# EAGLE library part TC4428A (library SPCoast)
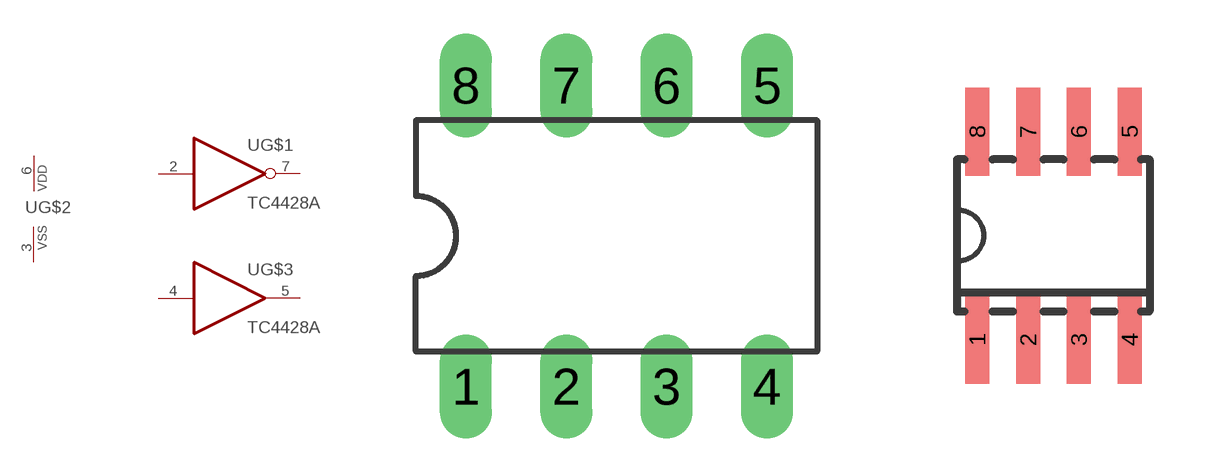
[diagram p80: symbol with the pads of DIL08; footprints DIL08, SO-08]

Designator prefix -; gates G$1=INVERT G$2=PWRN-1 G$3=BUFFER

## TC4428ADIP, TC4428ACPADIP, TC4428AEPADIP, TC4428AMJADIP  [DIL08]
2  G$1:I  in
3  G$2:VSS  pwr
4  G$3:I  in
5  G$3:O  out
6  G$2:VDD  pwr
7  G$1:O  out

## TC4428ASOIC, TC4428ACOASOIC, TC4428AEOASOIC  [SO-08]
Pads as for DIL08

## Footprint DIL08 (pad centres in mm)
Standard 8-pin DIP Packaging
drill 0.813 long: 1 -3.81,-3.81; 2 -1.27,-3.81; 3 1.27,-3.81; 4 3.81,-3.81; 5 3.81,3.81; 6 1.27,3.81; 7 -1.27,3.81; 8 -3.81,3.81

## Footprint SO-08 (pad centres in mm)
Small Outline Narrow Plastic Gull Wing 150-mil body, package type SN
smd 0.6 x 2.2: 1 -1.905,-2.6; 2 -0.635,-2.6; 3 0.635,-2.6; 4 1.905,-2.6; 5 1.905,2.6; 6 0.635,2.6; 7 -0.635,2.6; 8 -1.905,2.6